# EAGLE library part TC1121 (library _RoweTel)
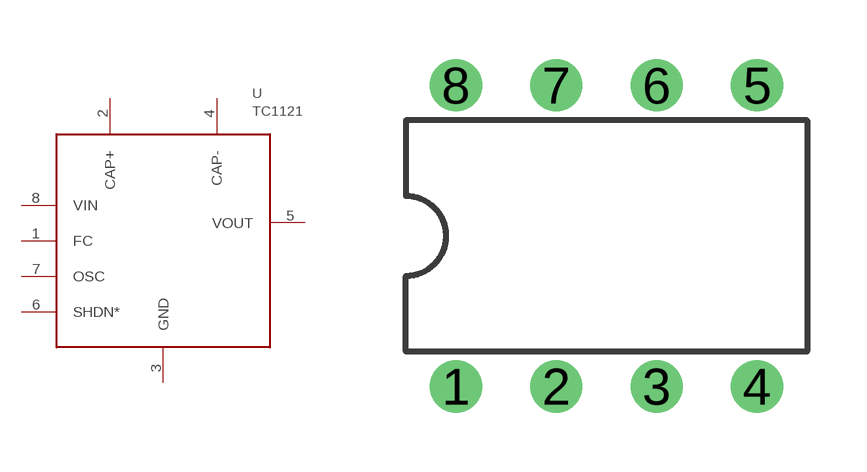
[diagram p54: symbol with the pads of DIL08; footprint DIL08]

Designator prefix U

## TC1121  [DIL08]
1  FC  in
2  CAP+
3  GND  pas
4  CAP-
5  VOUT  pas
6  SHDN*  in
7  OSC  nc
8  VIN  pas

## Footprint DIL08 (pad centres in mm)
Dual In Line Package
drill 0.813 pad 1.27: 1 -3.81,-3.81; 2 -1.27,-3.81; 3 1.27,-3.81; 4 3.81,-3.81; 5 3.81,3.81; 6 1.27,3.81; 7 -1.27,3.81; 8 -3.81,3.81